# Altium footprint library syhaunguyen.PcbLib: 329 footprints (part 18 of 21)
Each footprint in its own frame and in the unit in brackets; x right, y up, seen from the top. Pads: shape width x height; smd on the part's side, far side on the other; paste and mask are expansions set on the pad; w line width, h text height; cw(c..) or ccw(c..) is an arc to the next point about the centre after c.
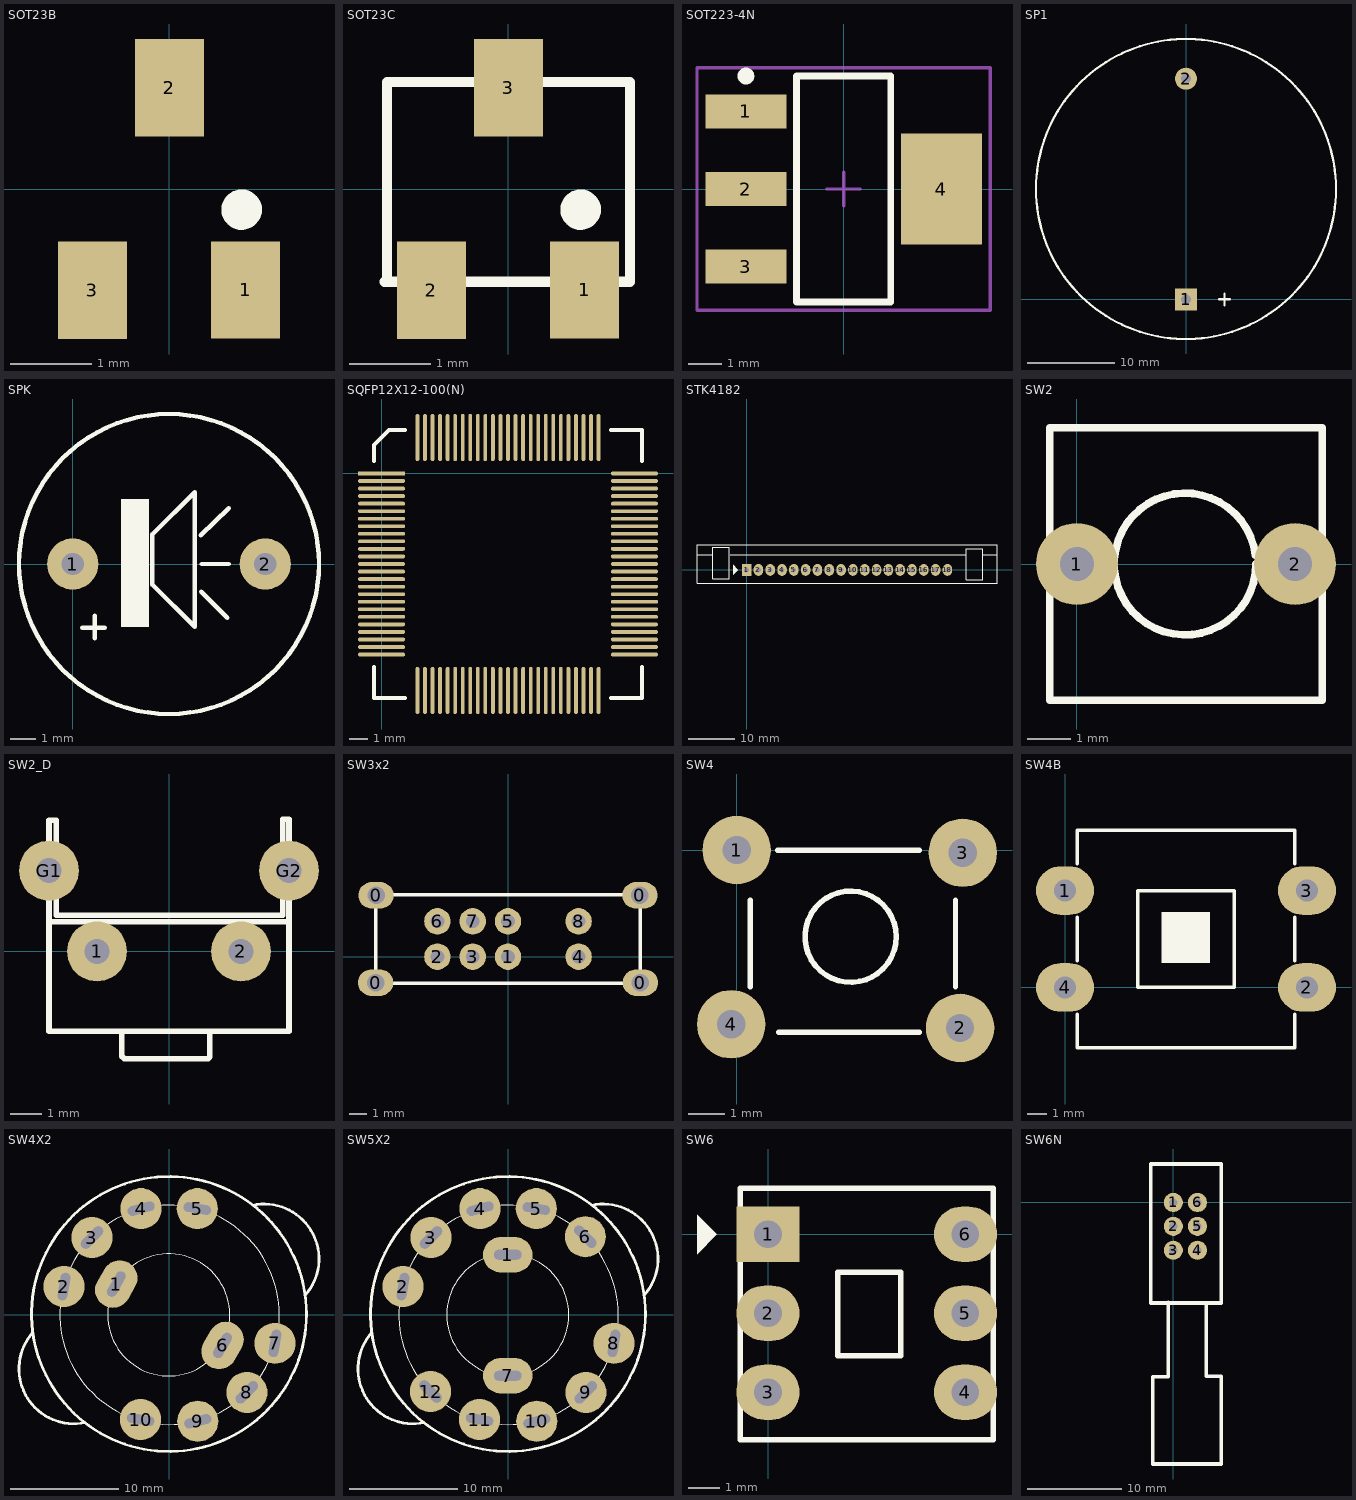
[diagram p17: the footprints below, top view; thin cyan lines are the x and y axes]

## SOT23B [mm] "SOT 23B"
height 1.27
pads (3):
  rect 0.85x1.2 smd: 1(0.94,-1.245) 2(0,1.25) 3(-0.95,-1.25)
Top Overlay:
  circle w0.25: c0.891,-0.254 r0.125
3D body: height 1.06, standoff -0.04, extent -1.5,-1.301 1.5,1.199

## SOT23C [mm] "SOT 23C - 2-3-1 - BCE"
height 1.27
pads (3):
  rect 0.85x1.2 smd: 1(0.94,-1.245) 2(-0.95,-1.25) 3(0,1.25)
Top Overlay:
  circle w0.25: c0.891,-0.254 r0.125
  lines w0.127: -1.524,-1.143 -1.499,-1.143 -1.499,1.321 1.499,1.321 1.499,-1.143 -1.524,-1.143
3D body: height 1.06, standoff -0.04, extent -1.5,-1.174 1.5,1.326

## SOT223-4N [mm] "SOT223, 4-Leads, Body 6.5x3.5mm, Pitch 2.3mm, Lead Span 7mm, IPC Medium Density"
height 1.8
pads (4):
  rect 2.4x1 smd: 1(-2.9,2.3) 2(-2.9,0) 3(-2.9,-2.3)
  rect 2.4x3.3 smd: 4(2.9,0)
Top Overlay:
  circle w0.25: c-2.9,3.35 r0.125
  lines w0.2: -1.4,-3.35 1.4,-3.35 1.4,3.35 -1.4,3.35 -1.4,-3.35
Mechanical 15:
  lines w0.1: -0.5,0 0.5,0 ; 0,-0.5 0,0.5 ; -4.35,-3.6 4.35,-3.6 4.35,3.6 -4.35,3.6 -4.35,-3.6
3D body: height 1.72, standoff 0.02, extent -3.395,-3.274 3.496,3.226

## SP1 [mil] "Speaker Telphone on Broad"
height 3
pads (2):
  rect 100x100 hole 45: 1(0,0)
  round 100 hole 45: 2(0,1000)
Top Overlay:
  circle w10: c0,500 r680
  lines w10: 150,0 200,0 ; 174,-28 174,26
3D body: height 382.53, standoff -227.75, extent -666.7,-174.54 652.2,1144.36

## SPK [mil] "Speaker Chip"
height 500
pads (2):
  round 80 hole 35: 1(0,0) 2(300,0)
Top Overlay:
  circle w7: c150,0 r233.73
  rectangle: 75,-98 119,101
  lines w7: 15,-99 50,-99 ; 34,-116 34,-81 ; 199.52,44.52 243,87 ; 200,-43 241,-84 ; 201,0 243,0 ; 124,-32 124,46 190,112 190,-98 124,-32
3D body: height 343.51, standoff -267.12, extent -221,-354.14 511.28,378.14

## SQFP12X12-100(N) [mm]
pads (100):
  rect 2.5x0.2 smd: 1(0,0)
  oval 2.5x0.2 smd: 2(0,-0.4) 3(0,-0.8) 4(0,-1.2) 5(0,-1.6) 6(0,-2) 7(0,-2.4) 8(0,-2.8) 9(0,-3.2) 10(0,-3.6) 11(0,-4) 12(0,-4.4) 13(0,-4.8) 14(0,-5.2) 15(0,-5.6) 16(0,-6) 17(0,-6.4) 18(0,-6.8) 19(0,-7.2) 20(0,-7.6) 21(0,-8) 22(0,-8.4) 23(0,-8.8) 24(0,-9.2) 25(0,-9.6) 51(13.4,-9.6) 52(13.4,-9.2) 53(13.4,-8.8) 54(13.4,-8.4) 55(13.4,-8) 56(13.4,-7.6) 57(13.4,-7.2) 58(13.4,-6.8) 59(13.4,-6.4) 60(13.4,-6) 61(13.4,-5.6) 62(13.4,-5.2) 63(13.4,-4.8) 64(13.4,-4.4) 65(13.4,-4) 66(13.4,-3.6) 67(13.4,-3.2) 68(13.4,-2.8) 69(13.4,-2.4) 70(13.4,-2) 71(13.4,-1.6) 72(13.4,-1.2) 73(13.4,-0.8) 74(13.4,-0.4) 75(13.4,0)
  oval 0.2x2.5 smd: 26(1.9,-11.5) 27(2.3,-11.5) 28(2.7,-11.5) 29(3.1,-11.5) 30(3.5,-11.5) 31(3.9,-11.5) 32(4.3,-11.5) 33(4.7,-11.5) 34(5.1,-11.5) 35(5.5,-11.5) 36(5.9,-11.5) 37(6.3,-11.5) 38(6.7,-11.5) 39(7.1,-11.5) 40(7.5,-11.5) 41(7.9,-11.5) 42(8.3,-11.5) 43(8.7,-11.5) 44(9.1,-11.5) 45(9.5,-11.5) 46(9.9,-11.5) 47(10.3,-11.5) 48(10.7,-11.5) 49(11.1,-11.5) 50(11.5,-11.5) 76(11.5,1.9) 77(11.1,1.9) 78(10.7,1.9) 79(10.3,1.9) 80(9.9,1.9) 81(9.5,1.9) 82(9.1,1.9) 83(8.7,1.9) 84(8.3,1.9) 85(7.9,1.9) 86(7.5,1.9) 87(7.1,1.9) 88(6.7,1.9) 89(6.3,1.9) 90(5.9,1.9) 91(5.5,1.9) 92(5.1,1.9) 93(4.7,1.9) 94(4.3,1.9) 95(3.9,1.9) 96(3.5,1.9) 97(3.1,1.9) 98(2.7,1.9) 99(2.3,1.9) 100(1.9,1.9)
Top Overlay:
  lines w0.2: -0.4,-10.25 -0.4,-11.9 1.25,-11.9 ; -0.4,0.65 -0.4,1.5 0.4,2.3 1.25,2.3 ; 12.15,-11.9 13.8,-11.9 13.8,-10.25 ; 12.15,2.3 13.8,2.3 13.8,0.65

## STK4182 [mil] "Pin to pin 100mil, 18 pin"
pads (18):
  rect 80x100 hole 40: 1(0,0)
  oval 80x100 hole 40: 2(100,0) 3(200,0) 4(300,0) 5(400,0) 6(500,0) 7(600,0) 8(700,0) 9(800,0) 10(900,0) 11(1000,0) 12(1100,0) 13(1200,0) 14(1300,0) 15(1400,0) 16(1500,0) 17(1600,0) 18(1700,0)
Top Overlay:
  region: -115,42.5 -115,-42.5 -75,-2.5 -75,2.5
  lines w10: -420,130 -285,130 ; -140,130 1860,130 ; 2000,130 2120,130 ; -420,-115 -420,215 2120,215 2120,-115 -420,-115 ; -285,-75 -145,-75 -145,190 -285,190 -285,-75 ; 1860,-85 1860,180 2000,180 2000,-85 1860,-85

## SW2 [mil] "SW button 2pin, 250x 250 mil"
height 100
pads (2):
  round 75 hole 31: 1(0,0) 2(200,0)
Top Overlay:
  lines w7: 163.64,8.26 ccw(c99.17,0) 164.17,0 ; -25,-125 225,-125 225,125 -25,125 -25,-125

## SW2_D [mil] "SW button 2pin, 300x 300 x 250 mil"
height 100
pads (4):
  round 75 hole 31: 1(-90,0) 2(90,0) G1(-150,101) G2(150,101)
Top Overlay:
  lines w7: -150,37 150,37 ; -59,-100 -59,-131 -56,-134 49,-134 51,-132 51,-100 ; -150,-100 -150,164 -141,164 -141,45 142,45 142,165 150,165 150,-100 -150,-100

## SW3x2 [mil] "Switch 3x2 - pin to pin 80"
height 500
pads (12):
  oval 80x60 hole 40: 0(-300,-59) 0(-299,139) 0(299,139) 0(300,-59)
  round 60 hole 31: 1(0,0) 2(-160,0) 3(-80,0) 4(160,0) 5(0,80) 6(-160,80) 7(-80,80) 8(160,80)
Top Overlay:
  lines w8: -300,-60 -300,140 300,140 300,-60 -300,-60

## SW4 [mil] "SW button 4pin, 250 x250 mil"
height 100
pads (4):
  round 75 hole 31: 1(0,0) 2(245,-195) 3(248,-3) 4(-6,-191)
Top Overlay:
  circle w6: c125,-95 r50
  lines w6: 15,-150 15,-55 ; 45,0 200,0 ; 46,-200 200,-200 ; 240,-150 240,-55
  lines w7: 239,-215 240,-214
3D body: height 275.59, standoff -137.8, extent -35.51,-220 275.51,24.09

## SW4B [mil] "SW button 4pin, 450 x 450 mil"
height 100
pads (4):
  oval 120x100 hole 45: 1(0,200) 2(500,0) 3(500,200) 4(0,0)
Top Overlay:
  rectangle: 199,50 300,156
  lines w7: 25,-55 25,-125 475,-125 475,-55 ; 25,55 25,145 ; 25,255 25,325 475,325 475,255 ; 475,55 475,145 ; 150,0 150,200 350,200 350,0 150,0
3D body: height 169.29, standoff -57.09, extent -3.21,-129.22 469.23,343.23

## SW4X2 [mil] "Switch 4x2"
height 500
pads (10):
  oval 180x130 hole 35 slot 100 at 60 deg rot 60: 1(-193.57,112.51) 6(193.7,-111.07)
  round 150 hole 35 slot 100 at 80 deg: 2(-384.48,103.48) 7(384.48,-103.48)
  round 150 hole 35 slot 100 at 45 deg: 3(-282.26,282.26) 8(282.26,-282.26)
  round 150 hole 35 slot 100 at 15 deg: 4(-103.48,387.48) 9(103.48,-387.48)
  round 150 hole 35 slot 100 at 170 deg: 5(101.54,387.46) 10(-105.2,-381.27)
Top Overlay:
  circle w10: c-1.46,3.46 r501
  circle w1: c0.54,0.46 r400
  circle w1: c-2.46,0.46 r222.5
  lines w10: -498,-63.94 ccw(c-348.29,-196.56) -307.65,-392.38 ; 303.52,399.93 cw(c345.18,204.32) 495.11,71.95

## SW5X2 [mil] "Switch 5x2"
height 500
pads (12):
  oval 180x130 hole 35 slot 100 at 0 deg: 1(-2.46,219.46) 7(-2.46,-221.54)
  round 150 hole 35 slot 100 at 80 deg: 2(-384.48,103.48) 8(384.48,-103.48)
  round 150 hole 35 slot 100 at 45 deg: 3(-282.26,282.26) 9(282.26,-282.26)
  round 150 hole 35 slot 100 at 15 deg: 4(-103.48,387.48) 10(103.48,-387.48)
  round 150 hole 35 slot 100 at 170 deg: 5(101.54,387.46) 11(-105.2,-381.27)
  round 150 hole 35 slot 100 at 135 deg: 6(280.32,285.24) 12(-283.98,-279.05)
Top Overlay:
  circle w10: c-1.46,3.46 r501
  circle w1: c0.54,0.46 r400
  circle w1: c-2.46,0.46 r222.5
  lines w10: -498,-63.94 ccw(c-348.29,-196.56) -307.65,-392.38 ; 303.52,399.93 cw(c345.18,204.32) 495.11,71.95

## SW6 [mil] "SW DTDP - 6Pin 260x300x300 mil"
pads (6):
  rect 80x70 hole 35: 1(0,0)
  oval 80x70 hole 35: 2(0,-100) 3(0,-200) 4(250,-200) 5(250,-100) 6(250,0)
Top Overlay:
  region: -90,25 -65,0 -90,-25
  lines w7: -35,-260 285,-260 285,58 -35,58 -35,-260 ; 88,-154 168,-154 168,-48 88,-48 88,-154
3D body: height 532.1, standoff -137.19, extent -33.48,-259.48 281.48,55.49

## SW6N [mil]
pads (6):
  round 80 hole 35: 1(0,0) 2(0,-100) 3(0,-200) 4(101,-200) 5(101,-100) 6(101,0)
Top Overlay:
  lines w15: -21,-419 -21,-730 -87,-730 -87,-1095 201,-1095 201,-728 137,-728 137,-421 142,-421 ; -95,-421 -95,161 200,161 200,-421 -95,-421
3D body: height 394.31, standoff -156.88, extent -95,-1096.66 200.28,161.56